# Altium schematic symbol library 1206AC222KAT1A.SchLib: 1 symbol
Pins are listed as number, name and electrical type; pins without a type are passive.

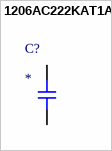
[diagram p0: symbol 1206AC222KAT1A]

## 1206AC222KAT1A
designator C?
2200pF Â±10% 1000V (1kV) Ceramic Capacitor X7R 1206 (3216 Metric); MF: {'manufacturer': u'AVX'}; MP: 1206AC222KAT1A; Package: None; Price: None; Value: *; Availability: Unavailable
footprint CAPC3216X94N
pins: 1 A, 2 B